# Altium footprint library Micron Memory Serial NOR Flash.PcbLib: 8 footprints
Each footprint in its own frame and in the unit in brackets; x right, y up, seen from the top. Pads: shape width x height; smd on the part's side, far side on the other; paste and mask are expansions set on the pad; w line width, h text height; cw(c..) or ccw(c..) is an arc to the next point about the centre after c.
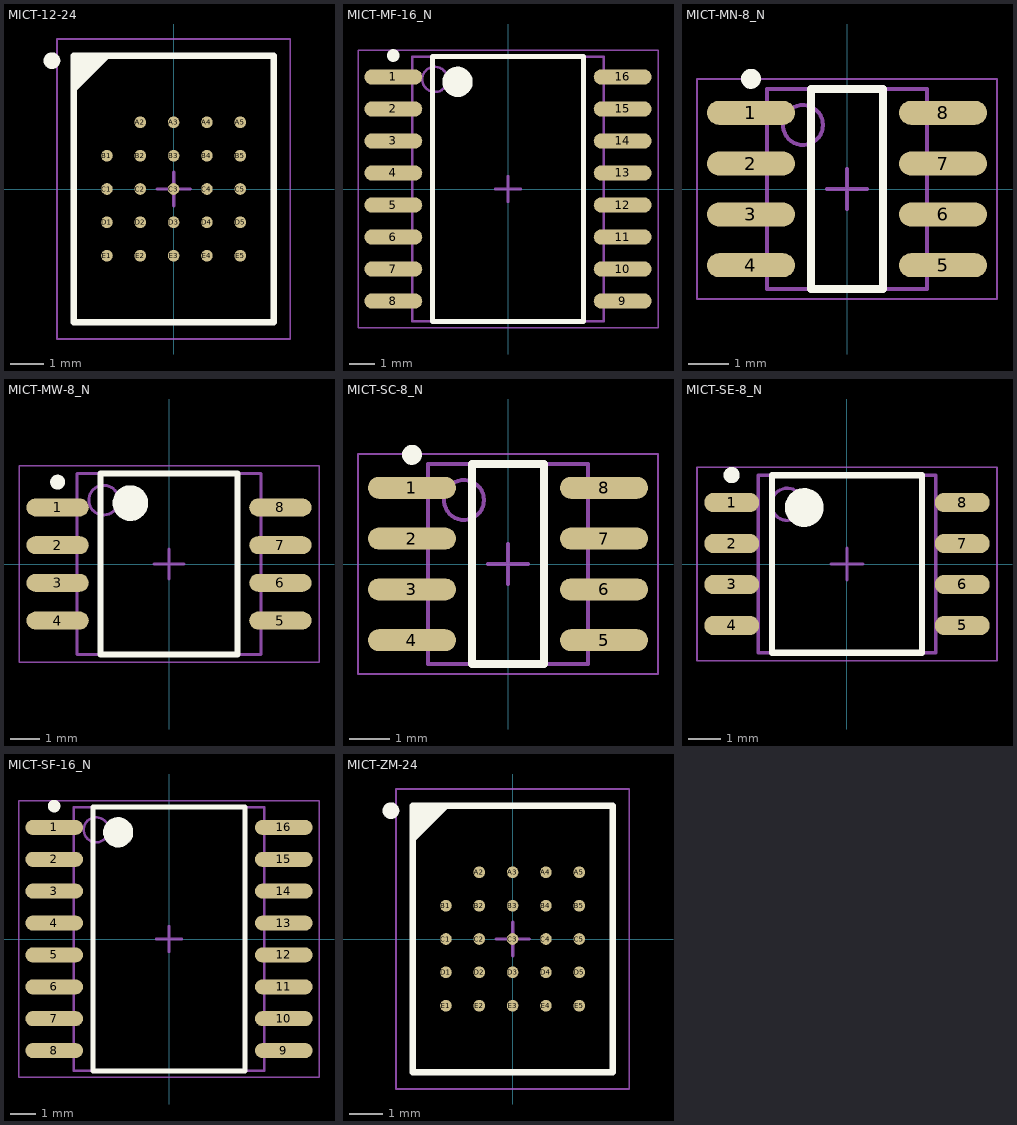
[diagram p0: the footprints below, top view; thin cyan lines are the x and y axes]

## MICT-12-24 [mm] "BGA, 24-Balls, Body 8x6mm, Pitch 1 mm"
pads (24):
  round 0.35 smd: A2(-1,2) A3(0,2) A4(1,2) A5(2,2) B1(-2,1) B2(-1,1) B3(0,1) B4(1,1) B5(2,1) C1(-2,0) C2(-1,0) C3(0,0) C4(1,0) C5(2,0) D1(-2,-1) D2(-1,-1) D3(0,-1) D4(1,-1) D5(2,-1) E1(-2,-2) E2(-1,-2) E3(0,-2) E4(1,-2) E5(2,-2)
Top Overlay:
  circle w0.25: c-3.65,3.85 r0.125
  region: -2,4 -3,3 -3,4
  lines w0.2: -3,3 -2,4 ; -3,-4 -3,4 3,4 3,-4 -3,-4
Mechanical 13:
  lines w0.1: -3,-4 -3,4 3,4 3,-4 -3,-4
Mechanical 15:
  lines w0.05: -3.5,-4.5 -3.5,4.5 3.5,4.5 3.5,-4.5 -3.5,-4.5
  lines w0.1: -0.5,0 0.5,0 ; 0,-0.5 0,0.5
3D body: height 0.2, standoff 0, extent -3,-4 3,4

## MICT-MF-16_N [mm] "SOIC, 16-Leads, Body 10.5x7.6mm, Pitch 1.27mm, IPC Medium Density"
pads (16):
  oval 2.3x0.6 smd: 1(-4.55,4.445) 2(-4.55,3.175) 3(-4.55,1.905) 4(-4.55,0.635) 5(-4.55,-0.635) 6(-4.55,-1.905) 7(-4.55,-3.175) 8(-4.55,-4.445) 9(4.55,-4.445) 10(4.55,-3.175) 11(4.55,-1.905) 12(4.55,-0.635) 13(4.55,0.635) 14(4.55,1.905) 15(4.55,3.175) 16(4.55,4.445)
Top Overlay:
  circle w0.6: c-2,4.25 r0.3
  circle w0.25: c-4.55,5.295 r0.125
  lines w0.2: -3,-5.25 3,-5.25 3,5.25 -3,5.25 -3,-5.25
Mechanical 13:
  circle w0.1: c-2.9,4.35 r0.5
  lines w0.1: -3.8,-5.25 3.8,-5.25 3.8,5.25 -3.8,5.25 -3.8,-5.25
Mechanical 15:
  lines w0.05: -5.95,-5.5 5.95,-5.5 5.95,5.5 -5.95,5.5 -5.95,-5.5
  lines w0.1: -0.5,0 0.5,0 ; 0,-0.5 0,0.5
3D body: height 0.1, standoff 0, extent -3.8,-5.25 3.8,5.25

## MICT-MN-8_N [mm] "SOIC, 8-Leads, Body 5x4mm, Pitch 1.27mm, IPC Medium Density"
pads (8):
  oval 2.2x0.6 smd: 1(-2.4,1.905) 2(-2.4,0.635) 3(-2.4,-0.635) 4(-2.4,-1.905) 5(2.4,-1.905) 6(2.4,-0.635) 7(2.4,0.635) 8(2.4,1.905)
Top Overlay:
  circle w0.25: c-2.4,2.755 r0.125
  lines w0.2: -0.9,-2.5 -0.9,2.5 0.9,2.5 0.9,-2.5 -0.9,-2.5
Mechanical 13:
  circle w0.1: c-1.1,1.6 r0.5
  lines w0.1: -2,-2.5 -2,2.5 2,2.5 2,-2.5 -2,-2.5
Mechanical 15:
  lines w0.05: -3.75,-2.75 -3.75,2.75 3.75,2.75 3.75,-2.75 -3.75,-2.75
  lines w0.1: -0.5,0 0.5,0 ; 0,-0.5 0,0.5
3D body: height 0.1, standoff 0, extent -2,-2.5 2,2.5

## MICT-MW-8_N [mm] "SOIC, 8-Leads, Body 6.2x6.1mm, Pitch 1.27mm, IPC Medium Density"
pads (8):
  oval 2.1x0.6 smd: 1(-3.75,1.905) 2(-3.75,0.635) 3(-3.75,-0.635) 4(-3.75,-1.905) 5(3.75,-1.905) 6(3.75,-0.635) 7(3.75,0.635) 8(3.75,1.905)
Top Overlay:
  circle w0.6: c-1.3,2.05 r0.3
  circle w0.25: c-3.75,2.755 r0.125
  lines w0.2: -2.3,-3.05 2.3,-3.05 2.3,3.05 -2.3,3.05 -2.3,-3.05
Mechanical 13:
  circle w0.1: c-2.2,2.15 r0.5
  lines w0.1: -3.1,-3.05 3.1,-3.05 3.1,3.05 -3.1,3.05 -3.1,-3.05
Mechanical 15:
  lines w0.05: -5.05,-3.3 5.05,-3.3 5.05,3.3 -5.05,3.3 -5.05,-3.3
  lines w0.1: -0.5,0 0.5,0 ; 0,-0.5 0,0.5
3D body: height 0, standoff 0, extent -3.1,-3.05 3.1,3.05

## MICT-SC-8_N [mm] "SOIC, 8-Leads, Body 5x4mm, Pitch 1.27mm, IPC Medium Density"
pads (8):
  oval 2.2x0.55 smd: 1(-2.4,1.905) 2(-2.4,0.635) 3(-2.4,-0.635) 4(-2.4,-1.905) 5(2.4,-1.905) 6(2.4,-0.635) 7(2.4,0.635) 8(2.4,1.905)
Top Overlay:
  circle w0.25: c-2.4,2.73 r0.125
  lines w0.2: -0.9,-2.5 -0.9,2.5 0.9,2.5 0.9,-2.5 -0.9,-2.5
Mechanical 13:
  circle w0.1: c-1.1,1.6 r0.5
  lines w0.1: -2,-2.5 -2,2.5 2,2.5 2,-2.5 -2,-2.5
Mechanical 15:
  lines w0.05: -3.75,-2.75 -3.75,2.75 3.75,2.75 3.75,-2.75 -3.75,-2.75
  lines w0.1: -0.5,0 0.5,0 ; 0,-0.5 0,0.5
3D body: height 0.1, standoff 0, extent -2,-2.5 2,2.5

## MICT-SE-8_N [mm] "SOIC, 8-Leads, Body 5.5x5.5mm, Pitch 1.27mm, IPC Medium Density"
pads (8):
  oval 1.7x0.6 smd: 1(-3.575,1.905) 2(-3.575,0.635) 3(-3.575,-0.635) 4(-3.575,-1.905) 5(3.575,-1.905) 6(3.575,-0.635) 7(3.575,0.635) 8(3.575,1.905)
Top Overlay:
  circle w0.25: c-3.575,2.755 r0.125
  circle w0.6: c-1.325,1.75 r0.3
  lines w0.2: -2.325,-2.75 -2.325,2.75 2.325,2.75 2.325,-2.75 -2.325,-2.75
Mechanical 13:
  circle w0.1: c-1.85,1.85 r0.5
  lines w0.1: -2.75,-2.75 -2.75,2.75 2.75,2.75 2.75,-2.75 -2.75,-2.75
Mechanical 15:
  lines w0.05: -4.65,-3 -4.65,3 4.65,3 4.65,-3 -4.65,-3
  lines w0.1: -0.5,0 0.5,0 ; 0,-0.5 0,0.5
3D body: height 0.05, standoff 0, extent -2.75,-2.75 2.75,2.75

## MICT-SF-16_N [mm] "SOIC, 16-Leads, Body 10.3x7.5mm, Pitch 1.27mm, IPC Medium Density"
pads (16):
  oval 2.3x0.6 smd: 1(-4.575,4.445) 2(-4.575,3.175) 3(-4.575,1.905) 4(-4.575,0.635) 5(-4.575,-0.635) 6(-4.575,-1.905) 7(-4.575,-3.175) 8(-4.575,-4.445) 9(4.575,-4.445) 10(4.575,-3.175) 11(4.575,-1.905) 12(4.575,-0.635) 13(4.575,0.635) 14(4.575,1.905) 15(4.575,3.175) 16(4.575,4.445)
Top Overlay:
  circle w0.6: c-2.025,4.25 r0.3
  circle w0.25: c-4.575,5.295 r0.125
  lines w0.2: -3.025,-5.25 3.025,-5.25 3.025,5.25 -3.025,5.25 -3.025,-5.25
Mechanical 13:
  circle w0.1: c-2.9,4.35 r0.5
  lines w0.1: -3.8,-5.25 3.8,-5.25 3.8,5.25 -3.8,5.25 -3.8,-5.25
Mechanical 15:
  lines w0.05: -5.975,-5.5 5.975,-5.5 5.975,5.5 -5.975,5.5 -5.975,-5.5
  lines w0.1: -0.5,0 0.5,0 ; 0,-0.5 0,0.5
3D body: height 0.1, standoff 0, extent -3.8,-5.25 3.8,5.25

## MICT-ZM-24 [mm] "BGA, 24-Balls, Body 8x6mm,Pitch 1mm"
pads (24):
  round 0.35 smd: A2(-1,2) A3(0,2) A4(1,2) A5(2,2) B1(-2,1) B2(-1,1) B3(0,1) B4(1,1) B5(2,1) C1(-2,0) C2(-1,0) C3(0,0) C4(1,0) C5(2,0) D1(-2,-1) D2(-1,-1) D3(0,-1) D4(1,-1) D5(2,-1) E1(-2,-2) E2(-1,-2) E3(0,-2) E4(1,-2) E5(2,-2)
Top Overlay:
  circle w0.25: c-3.65,3.85 r0.125
  region: -2,4 -3,3 -3,4
  lines w0.2: -3,3 -2,4 ; -3,-4 -3,4 3,4 3,-4 -3,-4
Mechanical 13:
  lines w0.1: -3,-4 -3,4 3,4 3,-4 -3,-4
Mechanical 15:
  lines w0.05: -3.5,-4.5 -3.5,4.5 3.5,4.5 3.5,-4.5 -3.5,-4.5
  lines w0.1: -0.5,0 0.5,0 ; 0,-0.5 0,0.5
3D body: height 0.2, standoff 0, extent -3,-4 3,4